# Altium footprint library 张志松开发板.PcbLib: 38 footprints (part 1 of 3)
Each footprint in its own frame and in the unit in brackets; x right, y up, seen from the top. Pads: shape width x height; smd on the part's side, far side on the other; paste and mask are expansions set on the pad; w line width, h text height; cw(c..) or ccw(c..) is an arc to the next point about the centre after c.
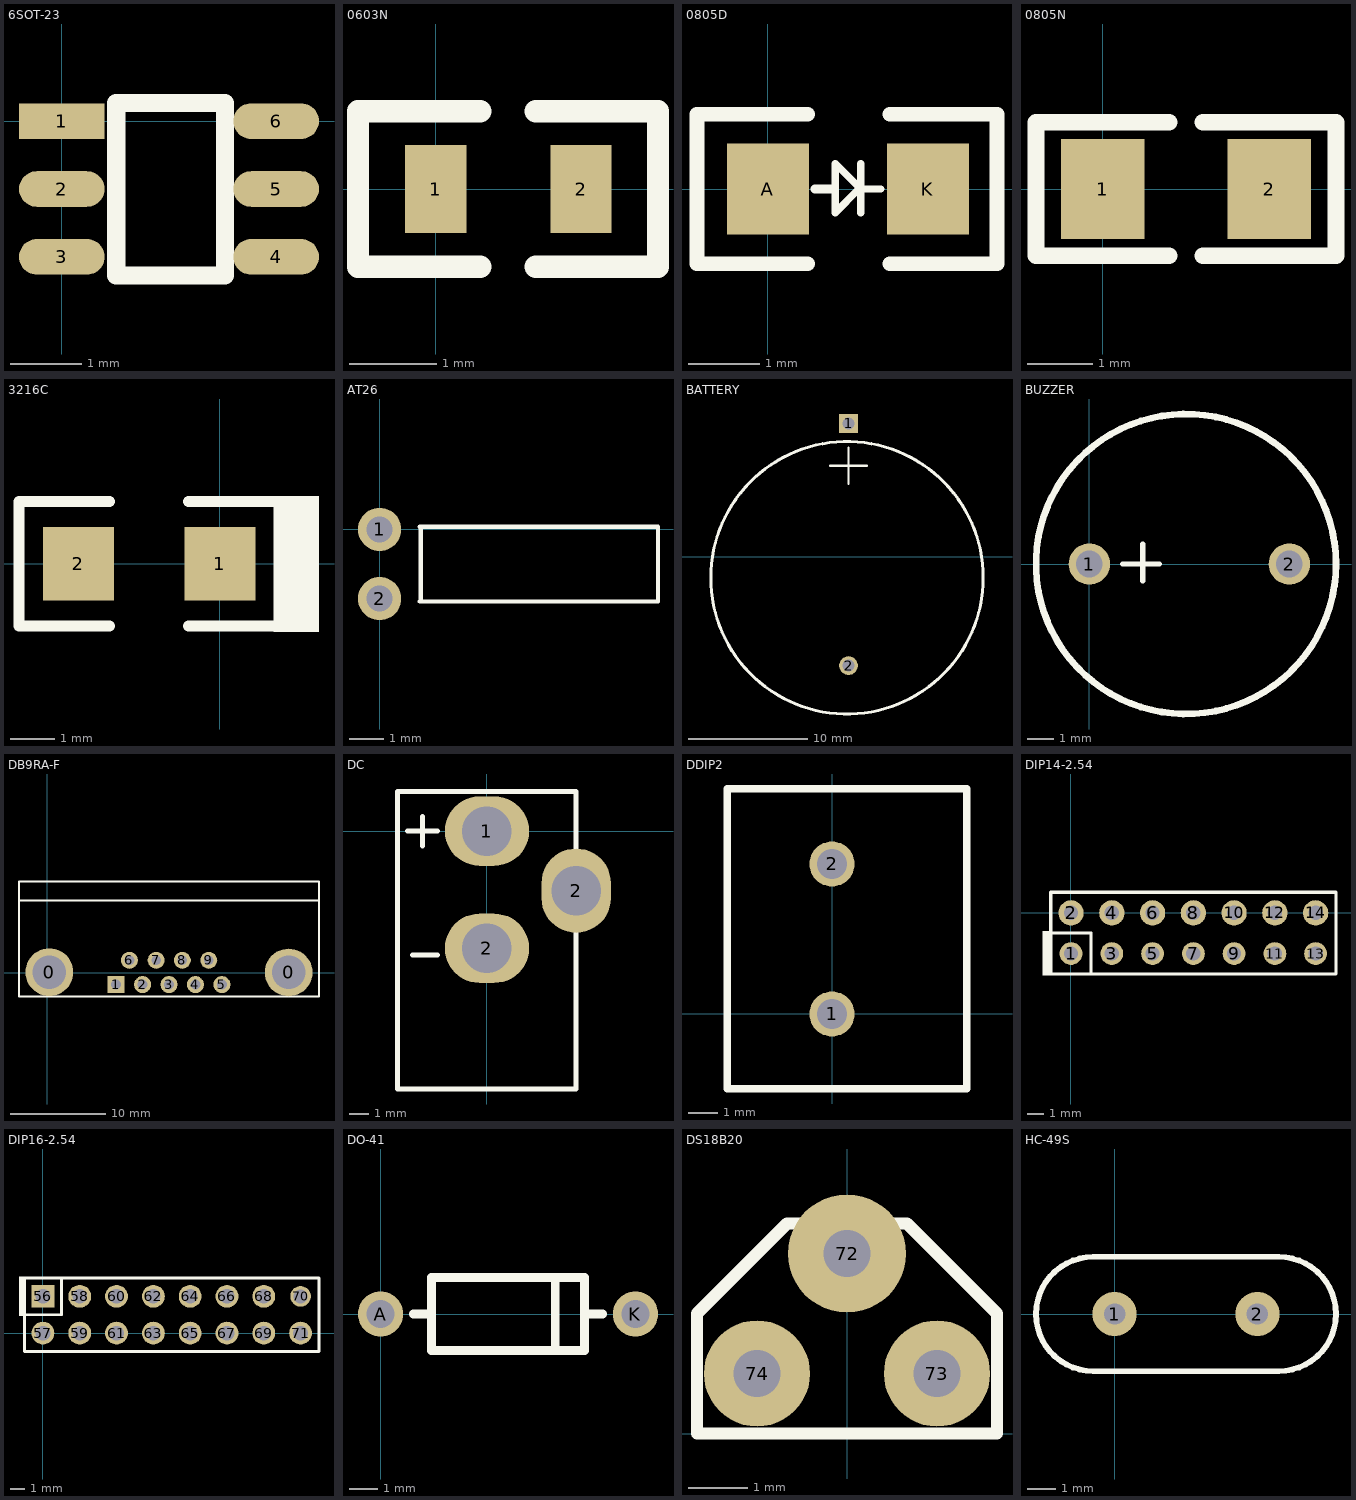
[diagram p0: the footprints below, top view; thin cyan lines are the x and y axes]

## 6SOT-23 [mm]
pads (6):
  rect 1.2x0.5 smd: 1(0,0)
  oval 1.2x0.5 smd: 2(0,-0.95) 3(0,-1.9) 4(3,-1.9) 5(3,-0.95) 6(3,0)
Top Overlay:
  lines w0.254: 0.762,-2.159 2.286,-2.159 2.286,0.254 0.762,0.254 0.762,-2.159

## 0603N [mm]
pads (2):
  rect 0.7x1.001 smd: 1(0,0) 2(1.66,0)
Top Overlay:
  lines w0.254: 0.508,-0.889 -0.635,-0.889 -0.889,-0.889 -0.889,0.889 -0.635,0.889 0.508,0.889 ; 1.143,-0.889 2.286,-0.889 2.54,-0.889 2.54,0.889 2.286,0.889 1.143,0.889

## 0805D [mil]
pads (2):
  rect 45x50 smd: A(0,0) K(88,0)
Top Overlay:
  lines w4: 51,-13 51,14 ; 62,0 51,0 ; 51,0 50,0 37,-13 37,14 51,0
  lines w5: 26,0 36,0
  lines w8: 22,-41 -39,-41 -39,41 22,41 ; 67,-41 126,-41 126,41 67,41

## 0805N [mil]
pads (2):
  rect 50x60 smd: 1(0,0) 2(100,0)
Top Overlay:
  lines w10: 40,-40 -40,-40 -40,40 40,40 ; 60,-40 140,-40 140,40 60,40

## 3216C [mm]
pads (2):
  rect 1.6x1.65 smd: 1(0,0) 2(-3.175,0)
Top Overlay:
  rectangle: 1.206,-1.537 2.222,1.524
  lines w0.254: -2.476,-1.397 -4.508,-1.397 -4.508,1.397 -2.476,1.397 ; -0.699,-1.397 1.206,-1.397 ; -0.699,1.397 1.206,1.397

## AT26 [mil]
pads (2):
  round 50 hole 30: 1(0,0) 2(0,-80)
Top Overlay:
  rectangle: 44.72,-83.35 50,3.26
  lines w5: 46.49,-83.35 322.08,-83.35 322.08,3.26 46.49,3.26

## BATTERY [mil]
pads (2):
  rect 62x62 hole 40: 1(860,440)
  round 62 hole 40: 2(860,-360)
Top Overlay:
  circle w10: c855,-70 r450
  lines w8: 800,300 920,300 ; 860,240 860,260 860,360

## BUZZER [mil]
pads (2):
  round 62 hole 40: 1(0,0) 2(300,0)
Top Overlay:
  circle w10: c145,0 r225
  lines w8: 50,0 105,0 ; 80,-25 80,30

## DB9RA-F [mil]
pads (11):
  round 196.85 hole 137.79: 0(8,2) 0(994,1)
  rect 70x70 hole 40: 1(283,-49)
  round 70 hole 40: 2(392,-49) 3(501,-49) 4(610,-49) 5(719,-49) 6(338,51) 7(448,51) 8(556,51) 9(665,51)
Top Overlay:
  lines w8: -117,297.26 1119,297.26 ; -117,-98.35 1119,-98.35 1119,376 -117,376 -117,-98.35

## DC [mil]
pads (3):
  oval 170x140 hole 100: 1(0,0) 2(0,-236.3)
  oval 140x170 hole 100: 2(180,-120)
Top Overlay:
  lines w10: -160,0 -100,0 ; -150,-250 -100,-250 ; -130,-30 -130,30 ; -180,-520 180,-520 180,80 -180,80 -180,-520

## DDIP2 [mil]
pads (2):
  round 60 hole 40: 1(0,0) 2(0,200)
Top Overlay:
  lines w10: -140,-100 -140,-60 -140,300 180,300 180,-100 140,-100 -140,-100

## DIP14-2.54 [mil]
pads (14):
  round 56 hole 35: 1(1,-99.67) 3(101,-99.67) 5(201,-99.67) 7(301,-99.67) 9(401,-99.67) 11(501,-99.67) 13(601,-99.67)
  round 62 hole 35: 2(1,0.33) 4(101,0.33) 6(201,0.33) 8(301,0.33) 10(401,0.33) 12(501,0.33) 14(601,0.33)
Top Overlay:
  rectangle: -69,-153.67 -49,-44
  lines w8: -49,-49 49,-49 50,-50 50,-148.67 49,-149.67 ; -49,-149.67 -49,51 651,51 651,-149.67 -49,-149.67

## DIP16-2.54 [mil]
pads (16):
  rect 62x62 hole 40: 56(0,100)
  round 62 hole 40: 57(0,0) 58(100,100) 59(100,0) 60(200,100) 61(200,0) 62(300,100) 63(300,0) 64(400,100) 65(400,0) 66(500,100) 67(500,0) 68(600,100) 69(600,0) 71(700,0)
  round 56 hole 38: 70(700,100)
Top Overlay:
  rectangle: -65,46 -50,154
  lines w8: -50,50 50,50 50,150 ; -50,-50 750,-50 750,150 -50,150 -50,-50

## DO-41 [mil]
pads (2):
  round 62 hole 38: A(0,0) K(350,0)
Top Overlay:
  lines w12: 45,0 70,0 ; 240,-50 240,50 ; 280,0 305,0 ; 70,-50 280,-50 280,50 70,50 70,-50

## DS18B20 [mm]
pads (3):
  round 2 hole 0.8: 72(0,3.048)
  round 1.8 hole 0.8: 73(1.524,1.016) 74(-1.524,1.016)
Top Overlay:
  lines w0.203: -2.54,0 -2.54,2.032 -1.016,3.556 1.016,3.556 2.54,2.032 2.54,0 -2.54,0

## HC-49S [mil]
pads (2):
  round 62 hole 30: 1(0,0) 2(200,0)
Top Overlay:
  lines w8: -30,-80 cw(c-30,0) -30,80 230,80 cw(c230,0) 230,-80 -30,-80